# EAGLE library part 4000 (library 40xxDIN)
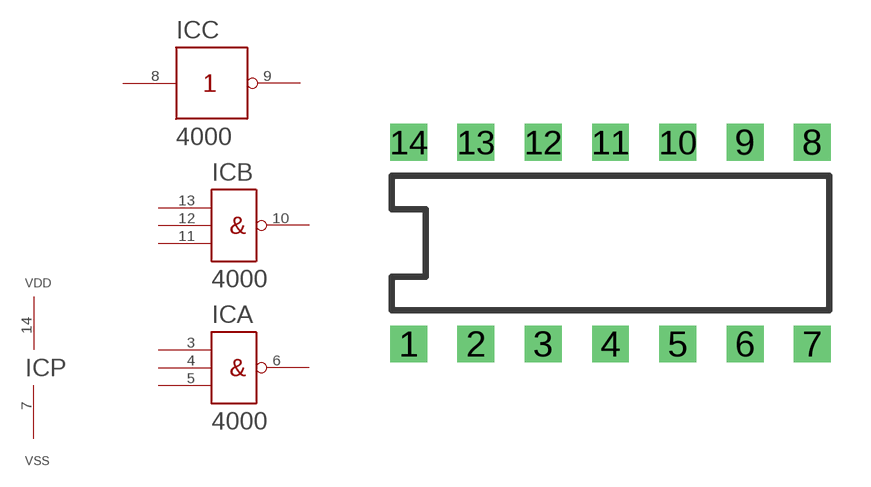
[diagram p54: symbol with the pads of DIL14; footprint DIL14]

Designator prefix IC; gates A=4023 B=4023 C=4009 P=PWRN

## 4000  [DIL14]
3  A:I0  in
4  A:I1  in
5  A:I2  in
6  A:O  out
7  P:VSS  pwr
8  C:I  in
9  C:O  out
10  B:O  out
11  B:I2  in
12  B:I1  in
13  B:I0  in
14  P:VDD  pwr

## Footprint DIL14 (pad centres in mm)
drill 0.8 pad 1.397 square: 1 0,0; 2 2.54,0; 3 5.08,0; 4 7.62,0; 5 10.16,0; 6 12.7,0; 7 15.24,0; 8 15.24,7.62; 9 12.7,7.62; 10 10.16,7.62; 11 7.62,7.62; 12 5.08,7.62; 13 2.54,7.62; 14 0,7.62